# Altium schematic symbol library Transistor_Power_Module.SchLib: 31 symbols
Pins are listed as number, name and electrical type; pins without a type are passive.

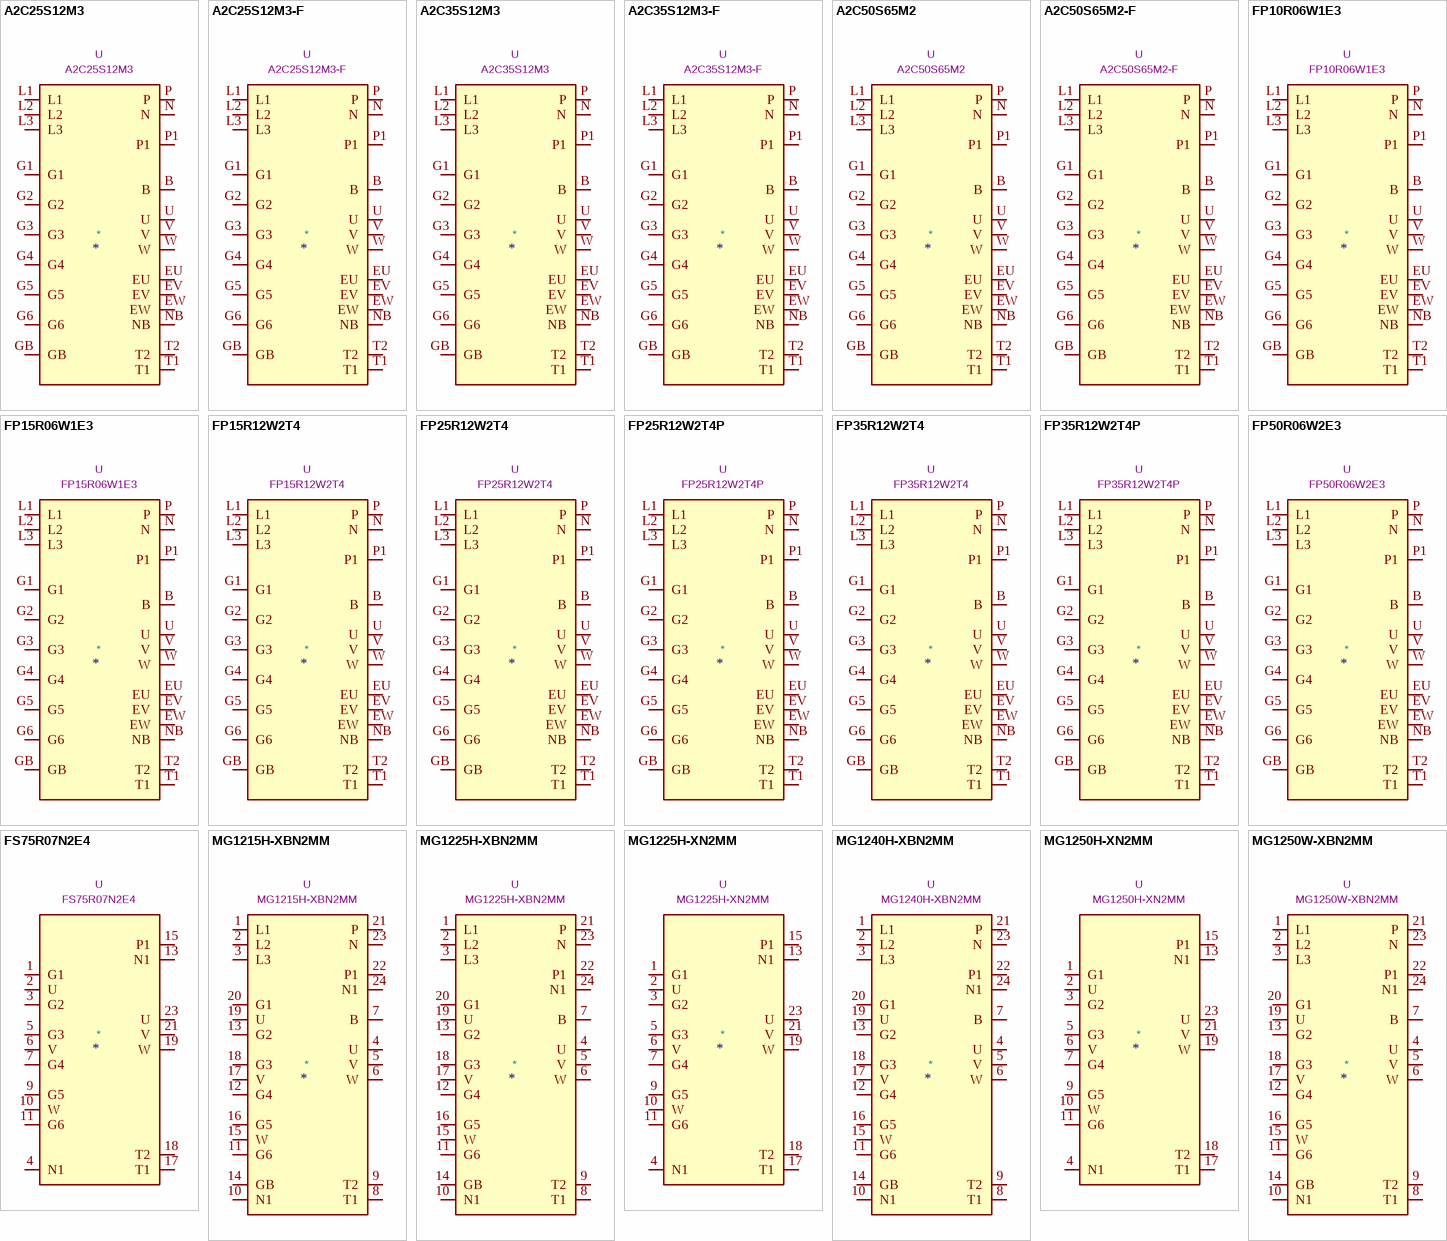
[diagram p0: symbols A2C25S12M3 to MG1250W-XBN2MM]

## A2C25S12M3
designator *  value A2C25S12M3  Reference: U
ki_keywords: IGBT Power Module Trench Field Stop Technology M series; ki_description: 25A, 1200V, 20kHz, 197W x 6 , 3-phase, Freewheeling Diode, Brake Chopper, Diode Rectifier, 5k NTC, ACEPACK-2-CIB; ki_fp_filters: ST*ACEPACK*2*CIB*; Footprint: Transistor_Power_Module:ST_ACEPACK-2-CIB; Datasheet: https://www.st.com/resource/en/datasheet/a2c25s12m3.pdf
pins: B, EU, EV, EW, G1, G2, G3, G4, G5, G6, GB, L1, L2, L3, N, NB, P, P1, T1, T2, U, V, W

## A2C25S12M3-F
designator *  value A2C25S12M3-F  Reference: U
ki_keywords: IGBT Power Module Trench Field Stop Technology M series; ki_description: 25A, 1200V, 20kHz, 197W x 6 , 3-phase, Freewheeling Diode, Brake Chopper, Diode Rectifier, 5k NTC, PressFIT, ACEPACK-2-CIB; ki_fp_filters: ST*ACEPACK*2*CIB*PressFIT*; Footprint: Transistor_Power_Module:ST_ACEPACK-2-CIB_PressFIT; Datasheet: https://www.st.com/resource/en/datasheet/a2c25s12m3-f.pdf
pins: B, EU, EV, EW, G1, G2, G3, G4, G5, G6, GB, L1, L2, L3, N, NB, P, P1, T1, T2, U, V, W

## A2C35S12M3
designator *  value A2C35S12M3  Reference: U
ki_keywords: IGBT Power Module Trench Field Stop Technology M series; ki_description: 35A, 1200V, 20kHz, 250W x 6 , 3-phase, Freewheeling Diode, Brake Chopper, Diode Rectifier, 5k NTC, ACEPACK-2-CIB; ki_fp_filters: ST*ACEPACK*2*CIB*; Footprint: Transistor_Power_Module:ST_ACEPACK-2-CIB; Datasheet: https://www.st.com/resource/en/datasheet/a2c35s12m3.pdf
pins: B, EU, EV, EW, G1, G2, G3, G4, G5, G6, GB, L1, L2, L3, N, NB, P, P1, T1, T2, U, V, W

## A2C35S12M3-F
designator *  value A2C35S12M3-F  Reference: U
ki_keywords: IGBT Power Module Trench Field Stop Technology M series; ki_description: 35A, 1200V, 20kHz, 250W x 6 , 3-phase, Freewheeling Diode, Brake Chopper, Diode Rectifier, 5k NTC, PresFIT, ACEPACK-2-CIB; ki_fp_filters: ST*ACEPACK*2*CIB*PressFIT*; Footprint: Transistor_Power_Module:ST_ACEPACK-2-CIB_PressFIT; Datasheet: https://www.st.com/resource/en/datasheet/a2c35s12m3-f.pdf
pins: B, EU, EV, EW, G1, G2, G3, G4, G5, G6, GB, L1, L2, L3, N, NB, P, P1, T1, T2, U, V, W

## A2C50S65M2
designator *  value A2C50S65M2  Reference: U
ki_keywords: IGBT Power Module Trench Field Stop Technology M series; ki_description: 50A, 650V, 20kHz, 208W x 6 , 3-phase, Freewheeling Diode, Brake Chopper, Diode Rectifier, 5k NTC, ACEPACK-2-CIB; ki_fp_filters: ST*ACEPACK*2*CIB*; Footprint: Transistor_Power_Module:ST_ACEPACK-2-CIB; Datasheet: https://www.st.com/resource/en/datasheet/a2c50s65m2.pdf
pins: B, EU, EV, EW, G1, G2, G3, G4, G5, G6, GB, L1, L2, L3, N, NB, P, P1, T1, T2, U, V, W

## A2C50S65M2-F
designator *  value A2C50S65M2-F  Reference: U
ki_keywords: IGBT Power Module Trench Field Stop Technology M series; ki_description: 50A, 650V, 20kHz, 208W x 6 , 3-phase, Freewheeling Diode, Brake Chopper, Diode Rectifier, 5k NTC, PresFIT, ACEPACK-2-CIB; ki_fp_filters: ST*ACEPACK*2*CIB*PressFIT*; Footprint: Transistor_Power_Module:ST_ACEPACK-2-CIB_PressFIT; Datasheet: https://www.st.com/resource/en/datasheet/a2c50s65m2-f.pdf
pins: B, EU, EV, EW, G1, G2, G3, G4, G5, G6, GB, L1, L2, L3, N, NB, P, P1, T1, T2, U, V, W

## FP10R06W1E3
designator *  value FP10R06W1E3  Reference: U
ki_keywords: IGBT Power Module Trench Field Stop Technology M series; ki_description: 10A, 600V, 68W, 3-phase, Freewheeling Diode, Brake Chopper, Diode Rectifier, 5k NTC, EasyPIM-1B; ki_fp_filters: Infineon*EasyPIM*1B*; Footprint: Transistor_Power_Module:Infineon_EasyPIM-1B; Datasheet: https://www.infineon.com/dgdl/Infineon-FP10R06W1E3-DS-v02_01-en_de.pdf?fileId=db3a304412b407950112b43312285a63
pins: B, EU, EV, EW, G1, G2, G3, G4, G5, G6, GB, L1, L2, L3, N, NB, P, P1, T1, T2, U, V, W

## FP15R06W1E3
designator *  value FP15R06W1E3  Reference: U
ki_keywords: IGBT Power Module Trench Field Stop Technology; ki_description: 15A, 600V, 81W, 3-phase, Freewheeling Diode, Brake Chopper, Diode Rectifier, 5k NTC, EasyPIM-1B; ki_fp_filters: Infineon*EasyPIM*1B*; Footprint: Transistor_Power_Module:Infineon_EasyPIM-1B; Datasheet: https://www.infineon.com/dgdl/Infineon-FP15R06W1E3-DS-v02_01-en_de.pdf?fileId=db3a304412b407950112b43321b15a77
pins: B, EU, EV, EW, G1, G2, G3, G4, G5, G6, GB, L1, L2, L3, N, NB, P, P1, T1, T2, U, V, W

## FP15R12W2T4
designator *  value FP15R12W2T4  Reference: U
ki_keywords: IGBT Power Module Trench Field Stop Technology; ki_description: 15A, 1200V, 145W, 3-phase, Freewheeling Diode, Brake Chopper, Diode Rectifier, 5k NTC, EasyPIM-2B; ki_fp_filters: Infineon*EasyPIM*2B*; Footprint: Transistor_Power_Module:Infineon_EasyPIM-2B; Datasheet: https://www.infineon.com/dgdl/Infineon-FP15R12W2T4-DS-v03_00-en_de.pdf?fileId=db3a30433ba77ced013bae67c3eb3a5e
pins: B, EU, EV, EW, G1, G2, G3, G4, G5, G6, GB, L1, L2, L3, N, NB, P, P1, T1, T2, U, V, W

## FP25R12W2T4
designator *  value FP25R12W2T4  Reference: U
ki_keywords: IGBT Power Module Trench Field Stop Technology; ki_description: 25A, 1200V, 175W, 3-phase, Freewheeling Diode, Brake Chopper, Diode Rectifier, 5k NTC, EasyPIM-2B; ki_fp_filters: Infineon*EasyPIM*2B*; Footprint: Transistor_Power_Module:Infineon_EasyPIM-2B; Datasheet: https://www.infineon.com/dgdl/Infineon-FP25R12W2T4-DS-v02_02-EN.pdf?fileId=db3a3043163797a60116389cdaeb0183
pins: B, EU, EV, EW, G1, G2, G3, G4, G5, G6, GB, L1, L2, L3, N, NB, P, P1, T1, T2, U, V, W

## FP25R12W2T4P
designator *  value FP25R12W2T4P  Reference: U
ki_keywords: IGBT Power Module Trench Field Stop Technology; ki_description: 25A, 1200V, 175W, 3-phase, Freewheeling Diode, Brake Chopper, Diode Rectifier, 5k NTC, TIM, EasyPIM-2B; ki_fp_filters: Infineon*EasyPIM*2B*; Footprint: Transistor_Power_Module:Infineon_EasyPIM-2B; Datasheet: https://www.infineon.com/dgdl/Infineon-FP25R12W2T4P-DS-v03_00-EN.pdf?fileId=5546d4625bd71aa0015bfbc806e571fc
pins: B, EU, EV, EW, G1, G2, G3, G4, G5, G6, GB, L1, L2, L3, N, NB, P, P1, T1, T2, U, V, W

## FP35R12W2T4
designator *  value FP35R12W2T4  Reference: U
ki_keywords: IGBT Power Module Trench Field Stop Technology; ki_description: 35A, 1200V, 215W, 3-phase, Freewheeling Diode, Brake Chopper, Diode Rectifier, 5k NTC, EasyPIM-2B; ki_fp_filters: Infineon*EasyPIM*2B*; Footprint: Transistor_Power_Module:Infineon_EasyPIM-2B; Datasheet: https://www.infineon.com/dgdl/Infineon-FP35R12W2T4-DS-v02_02-EN.pdf?fileId=db3a3043163797a6011638a0541501a0
pins: B, EU, EV, EW, G1, G2, G3, G4, G5, G6, GB, L1, L2, L3, N, NB, P, P1, T1, T2, U, V, W

## FP35R12W2T4P
designator *  value FP35R12W2T4P  Reference: U
ki_keywords: IGBT Power Module Trench Field Stop Technology; ki_description: 35A, 1200V, 215W, 3-phase, Freewheeling Diode, Brake Chopper, Diode Rectifier, 5k NTC, TIM, EasyPIM-2B; ki_fp_filters: Infineon*EasyPIM*2B*; Footprint: Transistor_Power_Module:Infineon_EasyPIM-2B; Datasheet: https://www.infineon.com/dgdl/Infineon-FP35R12W2T4P-DS-v03_00-EN.pdf?fileId=5546d4625bd71aa0015bfbbf0d7a71f8
pins: B, EU, EV, EW, G1, G2, G3, G4, G5, G6, GB, L1, L2, L3, N, NB, P, P1, T1, T2, U, V, W

## FP50R06W2E3
designator *  value FP50R06W2E3  Reference: U
ki_keywords: IGBT Power Module Trench Field Stop Technology; ki_description: 50A, 600V, 175W, 3-phase, Freewheeling Diode, Brake Chopper, Diode Rectifier, 5k NTC, EasyPIM-2B; ki_fp_filters: Infineon*EasyPIM*2B*; Footprint: Transistor_Power_Module:Infineon_EasyPIM-2B; Datasheet: https://www.infineon.com/dgdl/Infineon-FP50R06W2E3-DS-v02_02-EN.pdf?fileId=db3a30431b3e89eb011b455c99987d24
pins: B, EU, EV, EW, G1, G2, G3, G4, G5, G6, GB, L1, L2, L3, N, NB, P, P1, T1, T2, U, V, W

## FS75R07N2E4
designator *  value FS75R07N2E4  Reference: U
ki_keywords: IGBT Power Module Trench Field Stop Technology; ki_description: 75A, 650V, 250W , 3-phase, Freewheeling Diode, 5k NTC, AG-Econo2; ki_fp_filters: *Infineon*AG*ECONO2*; Footprint: Transistor_Power_Module:Infineon_AG-ECONO2; Datasheet: https://www.infineon.com/dgdl/Infineon-FS75R07N2E4-DS-v02_00-en_de.pdf?fileId=db3a30432f5008fe012f52f916333979
pins: 1 G1, 2 U, 3 G2, 4 N1, 5 G3, 6 V, 7 G4, 8 N1 hidden, 9 G5, 10 W, 11 G6, 12 N1 hidden, 13 N1, 14 N1 hidden, 15 P1, 16 P1 hidden, 17 T1, 18 T2, 19 W, 20 W hidden, 21 V, 22 V hidden, 23 U, 24 U hidden, 25 P1 hidden, 26 P1 hidden, 27 N1 hidden, 28 N1 hidden

## MG1215H-XBN2MM
designator *  value MG1215H-XBN2MM  Reference: U
ki_keywords: IGBT Power Module Trench Field Stop Technology; ki_description: 15A, 1200V, 105W x 6 , 3-phase, Freewheeling Diode, Brake Chopper, Diode Rectifier, 5k NTC, Package-H (XBN2MM); ki_fp_filters: Littelfuse*Package*H*XBN2MM*; Footprint: Transistor_Power_Module:Littelfuse_Package_H_XBN2MM; Datasheet: https://www.littelfuse.com/~/media/electronics/datasheets/power_semiconductors/littelfuse_power_semiconductor_igbt_module_mg1215h_xbn2mm_datasheet.pdf.pdf
pins: 1 L1, 2 L2, 3 L3, 4 U, 5 V, 6 W, 7 B, 8 T1, 9 T2, 10 N1, 11 G6, 12 G4, 13 G2, 14 GB, 15 W, 16 G5, 17 V, 18 G3, 19 U, 20 G1, 21 P, 22 P1, 23 N, 24 N1

## MG1225H-XBN2MM
designator *  value MG1225H-XBN2MM  Reference: U
ki_keywords: IGBT Power Module Trench Field Stop Technology; ki_description: 25A, 1200V, 147W x 6 , 3-phase, Freewheeling Diode, Brake Chopper, Diode Rectifier, 5k NTC, Package-H (XBN2MM); ki_fp_filters: Littelfuse*Package*H*XBN2MM*; Footprint: Transistor_Power_Module:Littelfuse_Package_H_XBN2MM; Datasheet: https://www.littelfuse.com/~/media/electronics/datasheets/power_semiconductors/littelfuse_power_semiconductor_igbt_module_mg1225h_xbn2mm_datasheet.pdf.pdf
pins: 1 L1, 2 L2, 3 L3, 4 U, 5 V, 6 W, 7 B, 8 T1, 9 T2, 10 N1, 11 G6, 12 G4, 13 G2, 14 GB, 15 W, 16 G5, 17 V, 18 G3, 19 U, 20 G1, 21 P, 22 P1, 23 N, 24 N1

## MG1225H-XN2MM
designator *  value MG1225H-XN2MM  Reference: U
ki_keywords: IGBT Power Module Trench Field Stop Technology; ki_description: 25A, 1200V, 147W x 6 , 3-phase, Freewheeling Diode, 5k NTC, Package-H (XN2MM); ki_fp_filters: Littelfuse*Package*H*XN2MM*; Footprint: Transistor_Power_Module:Littelfuse_Package_H_XN2MM; Datasheet: https://www.littelfuse.com/~/media/electronics/datasheets/power_semiconductors/littelfuse_power_semiconductor_igbt_module_mg1225h_xn2mm_datasheet.pdf.pdf
pins: 1 G1, 2 U, 3 G2, 4 N1, 5 G3, 6 V, 7 G4, 8 N1 hidden, 9 G5, 10 W, 11 G6, 12 N1 hidden, 13 N1, 14 N1 hidden, 15 P1, 16 P1 hidden, 17 T1, 18 T2, 19 W, 20 W hidden, 21 V, 22 V hidden, 23 U, 24 U hidden, 25 P1 hidden, 26 P1 hidden, 27 N1 hidden, 28 N1 hidden

## MG1240H-XBN2MM
designator *  value MG1240H-XBN2MM  Reference: U
ki_keywords: IGBT Power Module Trench Field Stop Technology; ki_description: 40A, 1200V, 195W x 6 , 3-phase, Freewheeling Diode, Brake Chopper, Diode Rectifier, 5k NTC, Package-H (XBN2MM); ki_fp_filters: Littelfuse*Package*H*XBN2MM*; Footprint: Transistor_Power_Module:Littelfuse_Package_H_XBN2MM; Datasheet: https://www.littelfuse.com/~/media/electronics/datasheets/power_semiconductors/littelfuse_power_semiconductor_igbt_module_mg1240h_xbn2mm_datasheet.pdf.pdf
pins: 1 L1, 2 L2, 3 L3, 4 U, 5 V, 6 W, 7 B, 8 T1, 9 T2, 10 N1, 11 G6, 12 G4, 13 G2, 14 GB, 15 W, 16 G5, 17 V, 18 G3, 19 U, 20 G1, 21 P, 22 P1, 23 N, 24 N1

## MG1250H-XN2MM
designator *  value MG1250H-XN2MM  Reference: U
ki_keywords: IGBT Power Module Trench Field Stop Technology; ki_description: 50A, 1200V, 260W x 6 , 3-phase, Freewheeling Diode, 5k NTC, Package-H (XN2MM); ki_fp_filters: Littelfuse*Package*H*XN2MM*; Footprint: Transistor_Power_Module:Littelfuse_Package_H_XN2MM; Datasheet: https://www.littelfuse.com/~/media/electronics/datasheets/power_semiconductors/littelfuse_power_semiconductor_igbt_module_mg1250h_xn2mm_datasheet.pdf.pdf
pins: 1 G1, 2 U, 3 G2, 4 N1, 5 G3, 6 V, 7 G4, 8 N1 hidden, 9 G5, 10 W, 11 G6, 12 N1 hidden, 13 N1, 14 N1 hidden, 15 P1, 16 P1 hidden, 17 T1, 18 T2, 19 W, 20 W hidden, 21 V, 22 V hidden, 23 U, 24 U hidden, 25 P1 hidden, 26 P1 hidden, 27 N1 hidden, 28 N1 hidden

## MG1250W-XBN2MM
designator *  value MG1250W-XBN2MM  Reference: U
ki_keywords: IGBT Power Module Trench Field Stop Technology; ki_description: 50A, 1200V, 260W x 6 , 3-phase, Freewheeling Diode, Brake Chopper, Diode Rectifier, 5k NTC, Package-W (XBN2MM); ki_fp_filters: Littelfuse*Package*W*XBN2MM*; Footprint: Transistor_Power_Module:Littelfuse_Package_W_XBN2MM; Datasheet: https://www.littelfuse.com/~/media/electronics/datasheets/power_semiconductors/littelfuse_power_semiconductor_igbt_module_mg1250w_xbn2mm_datasheet.pdf.pdf
pins: 1 L1, 2 L2, 3 L3, 4 U, 5 V, 6 W, 7 B, 8 T1, 9 T2, 10 N1, 11 G6, 12 G4, 13 G2, 14 GB, 15 W, 16 G5, 17 V, 18 G3, 19 U, 20 G1, 21 P, 22 P1, 23 N, 24 N1

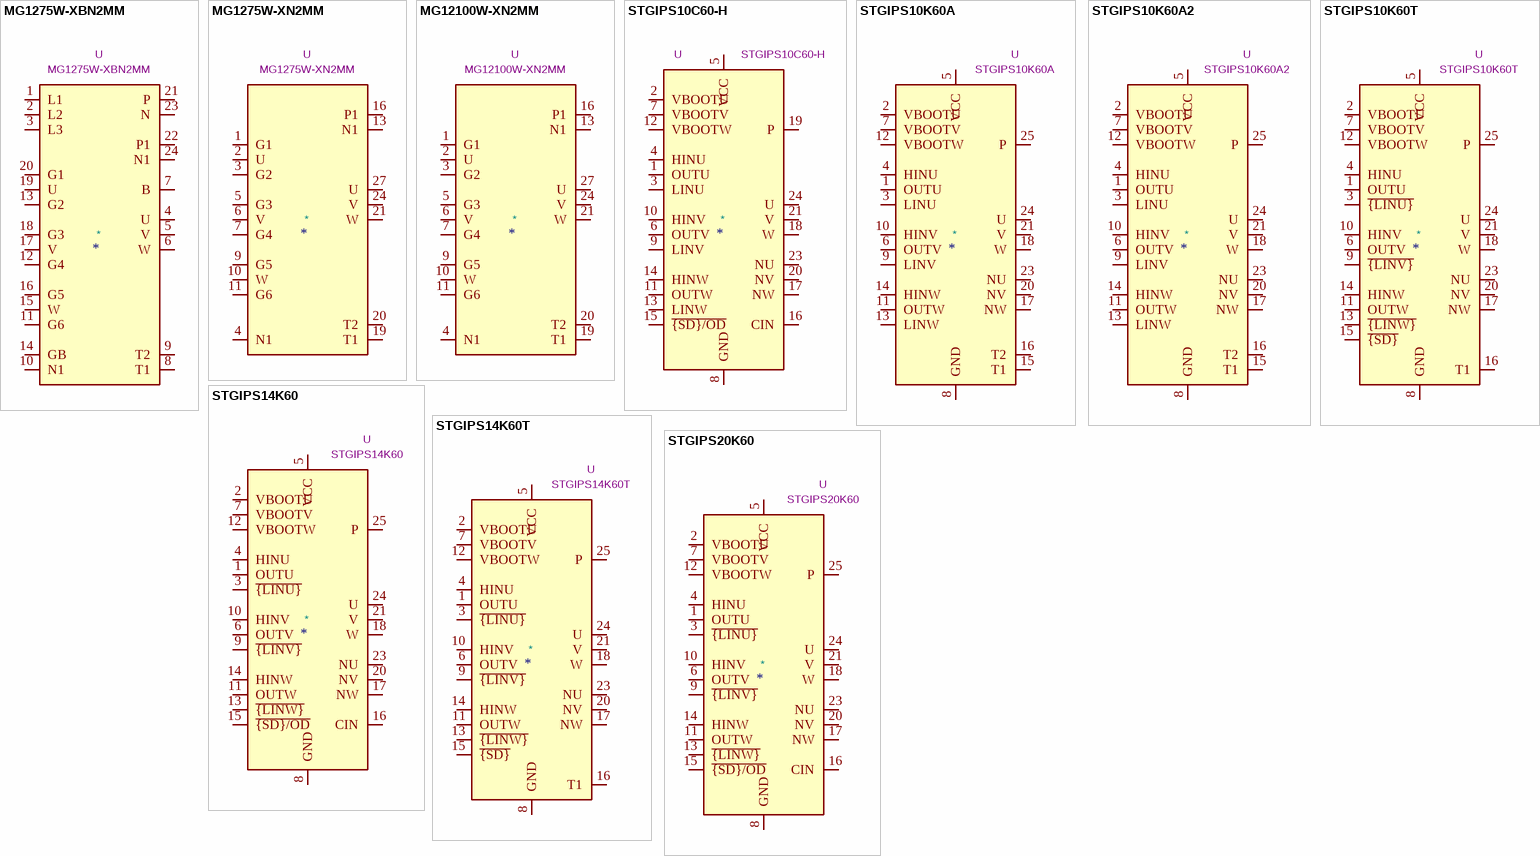
[diagram p1: symbols MG1275W-XBN2MM to STGIPS20K60]

## MG1275W-XBN2MM
designator *  value MG1275W-XBN2MM  Reference: U
ki_keywords: IGBT Power Module Trench Field Stop Technology; ki_description: 75A, 1200V, 358W x 6 , 3-phase, Freewheeling Diode, Brake Chopper, Diode Rectifier, 5k NTC, Package-W (XBN2MM); ki_fp_filters: Littelfuse*Package*W*XBN2MM*; Footprint: Transistor_Power_Module:Littelfuse_Package_W_XBN2MM; Datasheet: https://www.littelfuse.com/~/media/electronics/datasheets/power_semiconductors/littelfuse_power_semiconductor_igbt_module_mg1275w_xbn2mm_datasheet.pdf.pdf
pins: 1 L1, 2 L2, 3 L3, 4 U, 5 V, 6 W, 7 B, 8 T1, 9 T2, 10 N1, 11 G6, 12 G4, 13 G2, 14 GB, 15 W, 16 G5, 17 V, 18 G3, 19 U, 20 G1, 21 P, 22 P1, 23 N, 24 N1

## MG1275W-XN2MM
designator *  value MG1275W-XN2MM  Reference: U
ki_keywords: IGBT Power Module Trench Field Stop Technology; ki_description: 75A, 1200V, 368W x 6 , 3-phase, Freewheeling Diode, 5k NTC, Package-W (XN2MM); ki_fp_filters: Littelfuse*Package*W*XN2MM*; Footprint: Transistor_Power_Module:Littelfuse_Package_W_XN2MM; Datasheet: https://www.littelfuse.com/~/media/electronics/datasheets/power_semiconductors/littelfuse_power_semiconductor_igbt_module_mg1275w_xn2mm_datasheet.pdf.pdf
pins: 1 G1, 2 U, 3 G2, 4 N1, 5 G3, 6 V, 7 G4, 8 N1 hidden, 9 G5, 10 W, 11 G6, 12 N1 hidden, 13 N1, 14 N1 hidden, 15 N1 hidden, 16 P1, 17 P1 hidden, 18 P1 hidden, 19 T1, 20 T2, 21 W, 22 W hidden, 23 W hidden, 24 V, 25 V hidden, 26 V hidden, 27 U, 28 U hidden, 29 U hidden, 30 P1 hidden, 31 P1 hidden, 32 P1 hidden, 33 N1 hidden, 34 N1 hidden, 35 N1 hidden

## MG12100W-XN2MM
designator *  value MG12100W-XN2MM  Reference: U
ki_keywords: IGBT Power Module Trench Field Stop Technology; ki_description: 100A, 1200V, 450W x 6 , 3-phase, Freewheeling Diode, 5k NTC, Package-W (XN2MM); ki_fp_filters: Littelfuse*Package*W*XN2MM*; Footprint: Transistor_Power_Module:Littelfuse_Package_W_XN2MM; Datasheet: https://www.littelfuse.com/~/media/electronics/datasheets/power_semiconductors/littelfuse_power_semiconductor_igbt_module_mg12100w_xn2mm_datasheet.pdf.pdf
pins: 1 G1, 2 U, 3 G2, 4 N1, 5 G3, 6 V, 7 G4, 8 N1 hidden, 9 G5, 10 W, 11 G6, 12 N1 hidden, 13 N1, 14 N1 hidden, 15 N1 hidden, 16 P1, 17 P1 hidden, 18 P1 hidden, 19 T1, 20 T2, 21 W, 22 W hidden, 23 W hidden, 24 V, 25 V hidden, 26 V hidden, 27 U, 28 U hidden, 29 U hidden, 30 P1 hidden, 31 P1 hidden, 32 P1 hidden, 33 N1 hidden, 34 N1 hidden, 35 N1 hidden

## STGIPS10C60-H
designator *  value STGIPS10C60-H  Reference: U
ki_keywords: SLLIMM IPM inverter short-circuit rugged IGBT; ki_description: 10 A, 600 V, 20KHz, 33Wx6, 3-phase, Control Logic, Positive Input , Freewheeling Diode, Undervoltage Lockout, Interlocking, Shut down (SD), Comparator, SDIP-25L; ki_fp_filters: ST*SDIP*; Footprint: Transistor_Power_Module:ST_SDIP-25L; Datasheet: https://www.st.com/resource/en/datasheet/stgips10c60-h.pdf
pins: 1 OUTU, 2 VBOOTU, 3 LINU, 4 HINU, 5 VCC, 6 OUTV, 7 VBOOTV, 8 GND, 9 LINV, 10 HINV, 11 OUTW, 12 VBOOTW, 13 LINW, 14 HINW, 15 ~{{SD}/OD}, 16 CIN, 17 NW, 18 W, 19 P, 20 NV, 21 V, 22 P hidden, 23 NU, 24 U, 25 P hidden

## STGIPS10K60A
designator *  value STGIPS10K60A  Reference: U
ki_keywords: SLLIMM IPM inverter short-circuit rugged IGBT; ki_description: 10 A, 600 V, 20KHz, 33Wx6, 3-phase, Control Logic, Positive Input , Freewheeling Diodes, Undervoltage Lockout, Interlocking, 5k NTC, SDIP-25L; ki_fp_filters: ST*SDIP*; Footprint: Transistor_Power_Module:ST_SDIP-25L; Datasheet: https://www.st.com/resource/en/datasheet/stgips10k60a.pdf
pins: 1 OUTU, 2 VBOOTU, 3 LINU, 4 HINU, 5 VCC, 6 OUTV, 7 VBOOTV, 8 GND, 9 LINV, 10 HINV, 11 OUTW, 12 VBOOTW, 13 LINW, 14 HINW, 15 T1, 16 T2, 17 NW, 18 W, 19 P hidden, 20 NV, 21 V, 22 P hidden, 23 NU, 24 U, 25 P

## STGIPS10K60A2
designator *  value STGIPS10K60A2  Reference: U
ki_keywords: SLLIMM IPM inverter short-circuit rugged IGBT; ki_description: 10 A, 600 V, 20KHz, 33Wx6, 3-phase, Control Logic, Positive Input , Freewheeling Diodes, Undervoltage Lockout, Interlocking, 4k7 NTC, SDIP-25L; ki_fp_filters: ST*SDIP*; Footprint: Transistor_Power_Module:ST_SDIP-25L; Datasheet: https://www.st.com/resource/en/datasheet/stgips10k60a2.pdf
pins: 1 OUTU, 2 VBOOTU, 3 LINU, 4 HINU, 5 VCC, 6 OUTV, 7 VBOOTV, 8 GND, 9 LINV, 10 HINV, 11 OUTW, 12 VBOOTW, 13 LINW, 14 HINW, 15 T1, 16 T2, 17 NW, 18 W, 19 P hidden, 20 NV, 21 V, 22 P hidden, 23 NU, 24 U, 25 P

## STGIPS10K60T
designator *  value STGIPS10K60T  Reference: U
ki_keywords: SLLIMM IPM inverter short-circuit rugged IGBT; ki_description: 10 A, 600 V, 20KHz, 33Wx6, 3-phase, Control Logic, Negative Input , Freewheeling Diode, Undervoltage Lockout, Interlocking, Shut down (SD), 4k7 NTC, SDIP-25L; ki_fp_filters: ST*SDIP*; Footprint: Transistor_Power_Module:ST_SDIP-25L; Datasheet: https://www.st.com/resource/en/datasheet/stgips10k60t.pdf
pins: 1 OUTU, 2 VBOOTU, 3 ~{{LINU}}, 4 HINU, 5 VCC, 6 OUTV, 7 VBOOTV, 8 GND, 9 ~{{LINV}}, 10 HINV, 11 OUTW, 12 VBOOTW, 13 ~{{LINW}}, 14 HINW, 15 ~{{SD}}, 16 T1, 17 NW, 18 W, 19 P hidden, 20 NV, 21 V, 22 P hidden, 23 NU, 24 U, 25 P

## STGIPS14K60
designator *  value STGIPS14K60  Reference: U
ki_keywords: SLLIMM IPM inverter short-circuit rugged IGBT; ki_description: 14 A, 600 V, 20KHz, 42Wx6, 3-phase, Control Logic, Negative Input , Freewheeling Diode, Undervoltage Lockout, Interlocking, Shut down (SD), Comparator, SDIP-25L; ki_fp_filters: ST*SDIP*; Footprint: Transistor_Power_Module:ST_SDIP-25L; Datasheet: https://www.st.com/resource/en/datasheet/stgips14k60.pdf
pins: 1 OUTU, 2 VBOOTU, 3 ~{{LINU}}, 4 HINU, 5 VCC, 6 OUTV, 7 VBOOTV, 8 GND, 9 ~{{LINV}}, 10 HINV, 11 OUTW, 12 VBOOTW, 13 ~{{LINW}}, 14 HINW, 15 ~{{SD}/OD}, 16 CIN, 17 NW, 18 W, 19 P hidden, 20 NV, 21 V, 22 P hidden, 23 NU, 24 U, 25 P

## STGIPS14K60T
designator *  value STGIPS14K60T  Reference: U
ki_keywords: SLLIMM IPM inverter short-circuit rugged IGBT; ki_description: 14 A, 600 V, 20KHz, 42Wx6,  3-phase, Control Logic, Negative Input , Freewheeling Diode, Undervoltage Lockout, Interlocking, Shut down (SD), 4k7 NTC, SDIP-25L; ki_fp_filters: ST*SDIP*; Footprint: Transistor_Power_Module:ST_SDIP-25L; Datasheet: https://www.st.com/resource/en/datasheet/stgips14k60t.pdf
pins: 1 OUTU, 2 VBOOTU, 3 ~{{LINU}}, 4 HINU, 5 VCC, 6 OUTV, 7 VBOOTV, 8 GND, 9 ~{{LINV}}, 10 HINV, 11 OUTW, 12 VBOOTW, 13 ~{{LINW}}, 14 HINW, 15 ~{{SD}}, 16 T1, 17 NW, 18 W, 19 P hidden, 20 NV, 21 V, 22 P hidden, 23 NU, 24 U, 25 P

## STGIPS20K60
designator *  value STGIPS20K60  Reference: U
ki_keywords: SLLIMM IPM inverter short-circuit rugged IGBT; ki_description: 18 A, 600 V, 20KHz, 52Wx6,  3-phase, Control Logic, Negative Input , Freewheeling Diode, Undervoltage Lockout, Interlocking, Shut down (SD), Comparator, SDIP-25L; ki_fp_filters: ST*SDIP*; Footprint: Transistor_Power_Module:ST_SDIP-25L; Datasheet: https://www.st.com/resource/en/datasheet/stgips20k60.pdf
pins: 1 OUTU, 2 VBOOTU, 3 ~{{LINU}}, 4 HINU, 5 VCC, 6 OUTV, 7 VBOOTV, 8 GND, 9 ~{{LINV}}, 10 HINV, 11 OUTW, 12 VBOOTW, 13 ~{{LINW}}, 14 HINW, 15 ~{{SD}/OD}, 16 CIN, 17 NW, 18 W, 19 P hidden, 20 NV, 21 V, 22 P hidden, 23 NU, 24 U, 25 P